# EAGLE library part SN74ACT240DWR (library ECE380)
Octal Buffer
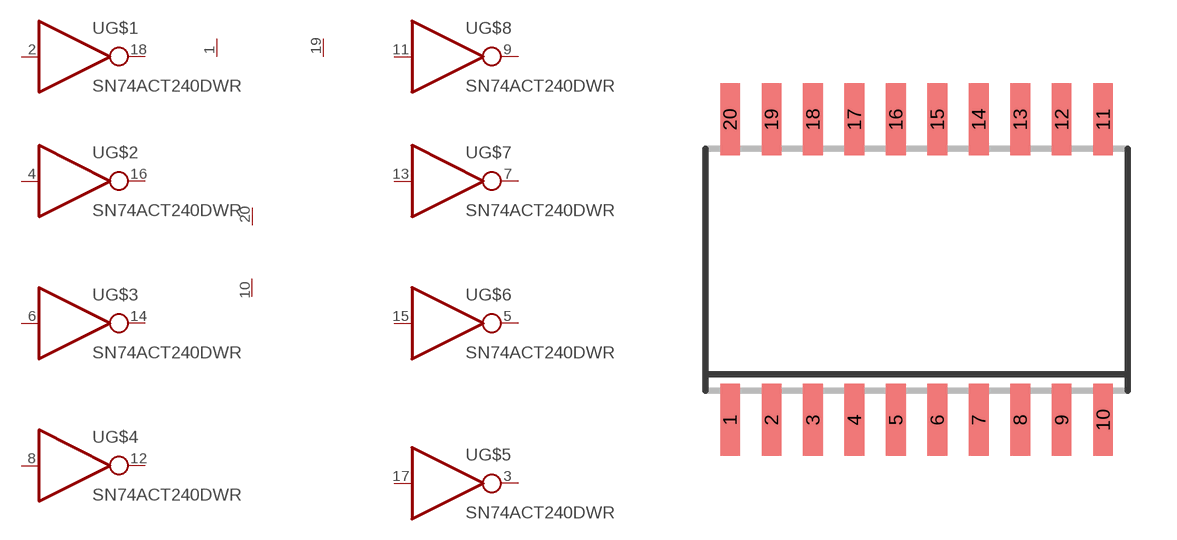
[diagram p6: symbol with the pads of SO-20; footprint SO-20]

Designator prefix -; gates G$1=INVERTER G$2=INVERTER G$3=INVERTER G$4=INVERTER G$5=INVERTER G$6=INVERTER G$7=INVERTER G$8=INVERTER G$9=1PWR_1GND G$10=EN_N G$11=EN_N

## SN74ACT240DWR  [SO-20]
1  G$10:!EN  in
2  G$1:IN
3  G$5:OUT
4  G$2:IN
5  G$6:OUT
6  G$3:IN
7  G$7:OUT
8  G$4:IN
9  G$8:OUT
10  G$9:GND
11  G$8:IN
12  G$4:OUT
13  G$7:IN
14  G$3:OUT
15  G$6:IN
16  G$2:OUT
17  G$5:IN
18  G$1:OUT
19  G$11:!EN  in
20  G$9:VIN

## Footprint SO-20 (pad centres in mm)
smd 0.6 x 2.2: 1 -5.715,-4.6; 2 -4.445,-4.6; 3 -3.175,-4.6; 4 -1.905,-4.6; 5 -0.635,-4.6; 6 0.635,-4.6; 7 1.905,-4.6; 8 3.175,-4.6; 9 4.445,-4.6; 10 5.715,-4.6; 11 5.715,4.6; 12 4.445,4.6; 13 3.175,4.6; 14 1.905,4.6; 15 0.635,4.6; 16 -0.635,4.6; 17 -1.905,4.6; 18 -3.175,4.6; 19 -4.445,4.6; 20 -5.715,4.6